# Altium integrated library IRF9362PBF.IntLib: 1 symbol
Pins are listed as number, name and electrical type; pins without a type are passive.

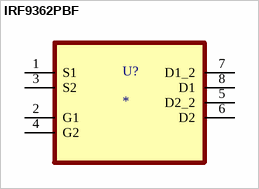
[diagram p0: symbol IRF9362PBF]

## IRF9362PBF
designator U?
HEXFET Power MOSFET; MP: IRF9362PBF; Package: None; Price: None; Value: *; Availability: Unavailable
footprint SOIC127P600X175-8N
pins: 1 S1, 2 G1, 3 S2, 4 G2, 5 D2_2, 6 D2, 7 D1_2, 8 D1